# Altium footprint library 39299044.PcbLib: 1 footprints
Each footprint in its own frame and in the unit in brackets; x right, y up, seen from the top. Pads: shape width x height; smd on the part's side, far side on the other; paste and mask are expansions set on the pad; w line width, h text height; cw(c..) or ccw(c..) is an arc to the next point about the centre after c.
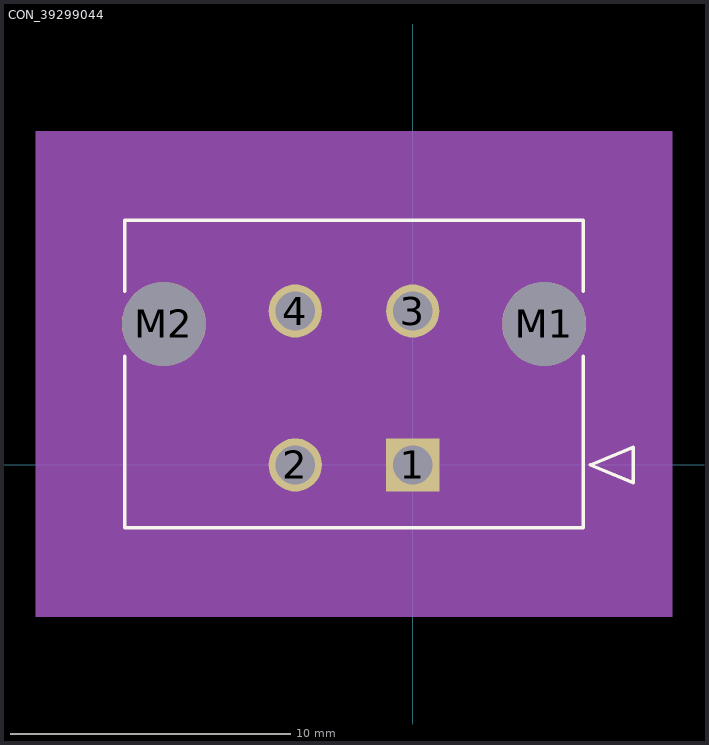
[diagram p0: the footprint, top view; thin cyan lines are the x and y axes]

## CON_39299044 [mm]
pads (6):
  rect 1.9x1.9 hole 1.4 mask+0.076: 1(0,0)
  round 1.9 hole 1.4 mask+0.076: 2(-4.2,0) 3(0,5.5) 4(-4.2,5.5)
  round 3 hole 3 unplated mask+0.076: M1(4.7,5.04) M2(-8.9,5.04)
Top Overlay:
  lines w0.127: -10.3,3.877 -10.3,-2.25 6.1,-2.25 6.1,3.877 ; -10.3,6.203 -10.3,8.75 6.1,8.75 6.1,6.203 ; 6.354,0 7.878,-0.635 7.878,0.635 6.354,0
Mechanical 5:
  region: -13.475,11.925 9.275,11.925 9.275,-5.425 -13.475,-5.425
Mechanical 13:
  lines w0.127: -10.3,-2.25 -10.3,8.75 6.1,8.75 6.1,-2.25 -10.3,-2.25 ; 6.354,0 7.878,-0.635 7.878,0.635 6.354,0
Mechanical 15:
  region: 7.37,10.02 -11.57,10.02 -11.57,-3.52 7.37,-3.52
  lines w0.127: -11.57,-3.52 7.37,-3.52 7.37,10.02 -11.57,10.02 -11.57,-3.52
3D body: height 0.25, standoff 0, extent 0,0 0.254,0.254